# Altium footprint library charging-module.PcbLib: 17 footprints (part 1 of 2)
Each footprint in its own frame and in the unit in brackets; x right, y up, seen from the top. Pads: shape width x height; smd on the part's side, far side on the other; paste and mask are expansions set on the pad; w line width, h text height; cw(c..) or ccw(c..) is an arc to the next point about the centre after c.
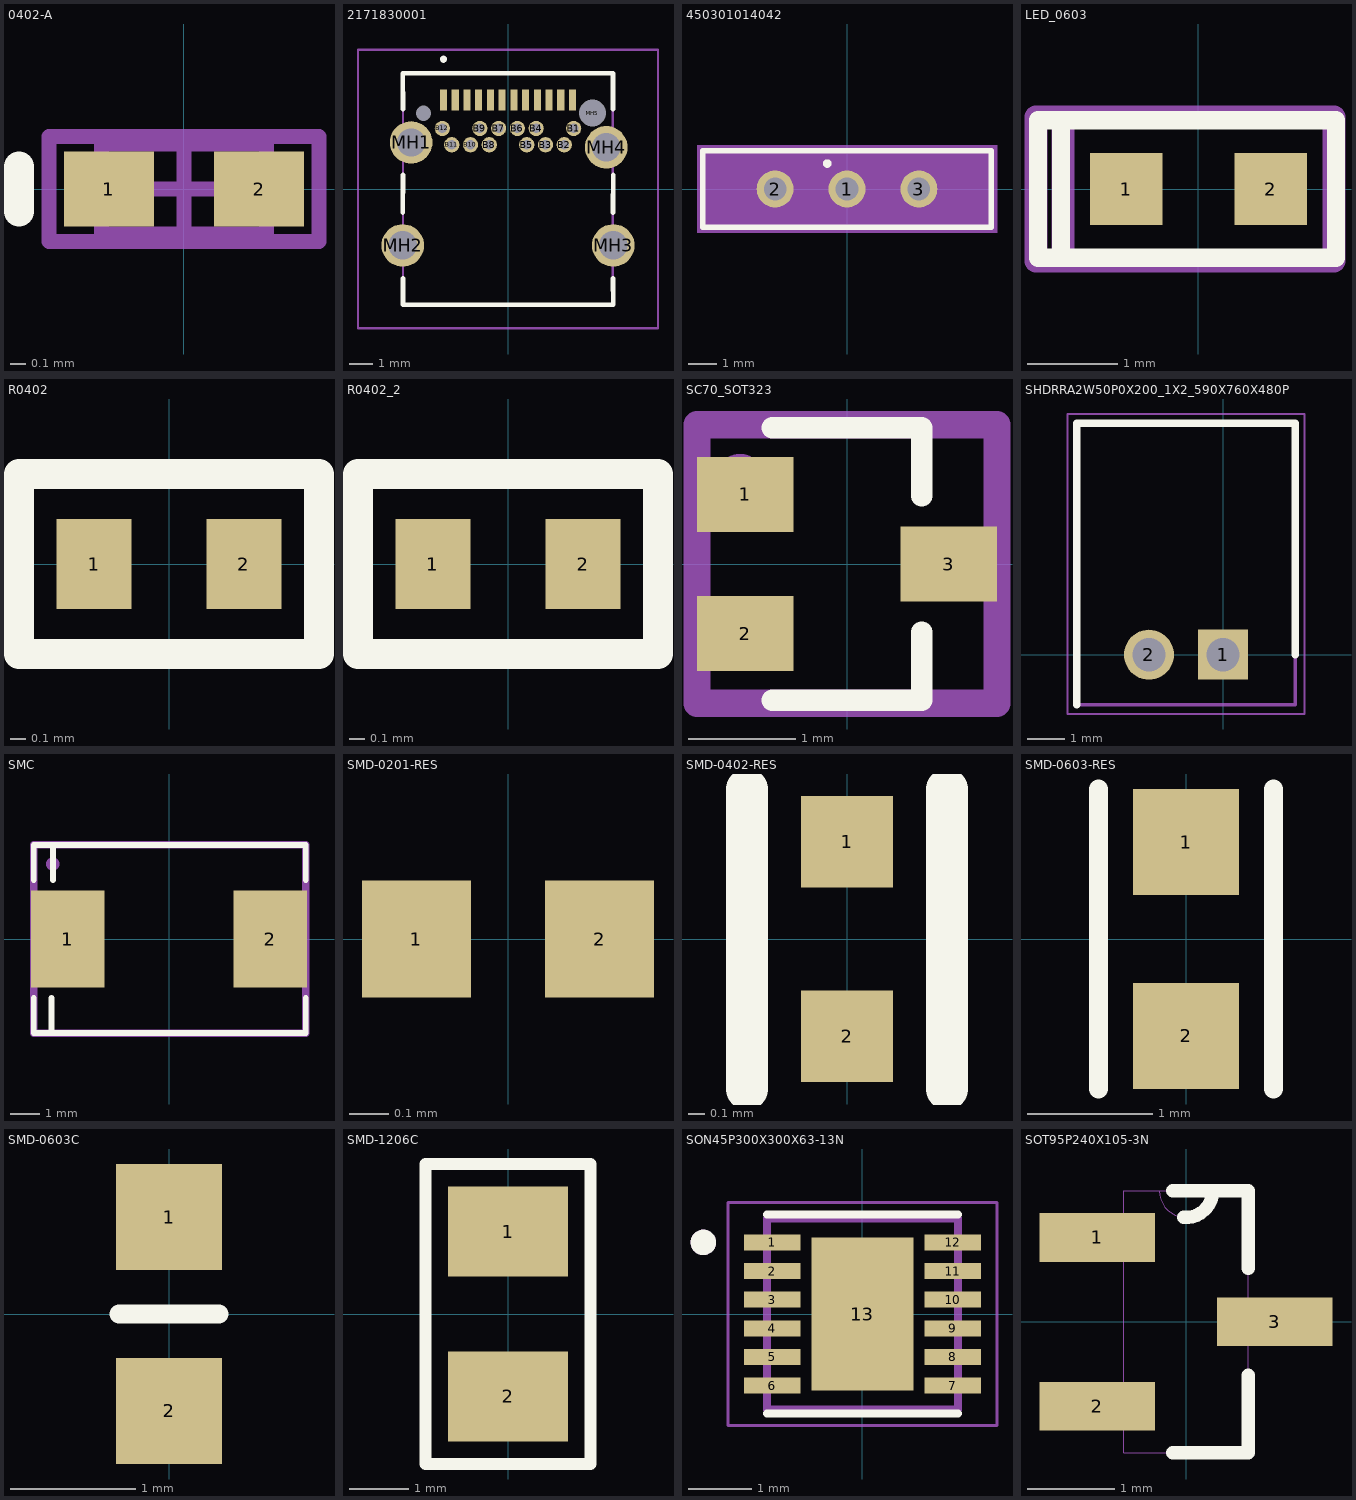
[diagram p0: the footprints below, top view; thin cyan lines are the x and y axes]

## 0402-A [mm] "Chip Inductor, Body 1.0x0.5mm, IPC High Density"
height 0.55
pads (2):
  rect 0.6x0.5 smd: 1(-0.5,0) 2(0.5,0)
Top Overlay:
  lines w0.2: -1.1,-0.15 -1.1,0.15
Mechanical 13:
  lines w0.1: -0.55,-0.3 0.55,-0.3 0.55,0.3 -0.55,0.3 -0.55,-0.3
Mechanical 15:
  lines w0.1: -0.3,0 0.3,0 ; 0,-0.3 0,0.3 ; -0.9,-0.35 0.9,-0.35 0.9,0.35 -0.9,0.35 -0.9,-0.35
3D body: height 0.55, standoff 0, extent -0.55,-0.3 0.55,0.3

## 2171830001 [mm]
pads (30):
  rect 0.3x0.9 smd: A1(-2.75,3.795) A2(-2.25,3.795) A3(-1.75,3.795) A4(-1.25,3.795) A5(-0.75,3.795) A6(-0.25,3.795) A7(0.25,3.795) A8(0.75,3.795) A9(1.25,3.795) A10(1.75,3.795) A11(2.25,3.795) A12(2.75,3.795)
  round 0.65 hole 0.4: B1(2.8,2.585) B2(2.4,1.885) B3(1.6,1.885) B4(1.2,2.585) B5(0.8,1.885) B6(0.4,2.585) B7(-0.4,2.585) B8(-0.8,1.885) B9(-1.2,2.585) B10(-1.6,1.885) B11(-2.4,1.885) B12(-2.8,2.585)
  round 1.815 hole 1.21: MH1(-4.13,1.985) MH2(-4.49,-2.405) MH3(4.49,-2.405) MH4(4.191,1.778)
  round 0.575 hole 1.15 unplated: MH5(3.6,3.235)
  round 0.325 hole 0.65 unplated: MH6(-3.6,3.235)
Top Overlay:
  lines w0.2: -4.49,-1 -4.475,0.6 ; -4.475,-3.8 -4.475,-4.935 4.49,-4.935 4.474,-3.8 ; -4.475,3.4 -4.49,4.935 4.474,4.935 4.474,3.4 ; -2.75,5.484 cw(c-2.75,5.535) -2.75,5.586 ; 4.474,-1 4.49,0.6 ; -2.75,5.485 ccw(c-2.75,5.535) -2.75,5.585 cw(c-2.75,5.535) -2.75,5.485
Mechanical 15:
  lines w0.1: -4.475,-4.935 -4.475,4.935 4.474,4.935 4.474,-4.935 -4.475,-4.935
Mechanical 20:
  lines w0.1: -6.397,-5.935 -6.397,5.935 6.397,5.935 6.397,-5.935 -6.397,-5.935
3D body "217183-0001.stp": height 2.23, standoff -2.23, extent -4.925,-5.189 4.925,4.681

## 450301014042 [mm]
pads (3):
  round 1.308 hole 0.8: 1(0,0) 2(-2.54,0) 3(2.54,0)
Top Overlay:
  circle w0.2: c-0.7,0.9 r0.05
  lines w0.2: -5.1,-1.35 5.1,-1.35 5.1,1.35 -5.1,1.35 -5.1,-1.35
Mechanical 13:
  lines w0.1: -5,-1.25 -5,1.25 5,1.25 5,-1.25 -5,-1.25
Mechanical 15:
  region: 5.3,-1.55 -5.3,-1.55 -5.3,1.55 5.3,1.55
3D body "450301014042+%28rev1%29.stp": height 6.4, standoff -5, extent -5,-1.25 5,1.25

## LED_0603 [mm]
pads (2):
  rect 0.8x0.8 smd: 1(-0.8,0) 2(0.8,0)
Top Overlay:
  lines w0.2: -1.524,-0.762 -1.524,0.762 ; -1.778,-0.762 -1.778,0.762 1.524,0.762 1.524,-0.762 -1.778,-0.762
Mechanical 16:
  lines w0.254: -1.5,-0.8 -1.5,0.8 ; -1.8,-0.8 1.5,-0.8 1.5,0.8 -1.8,0.8 -1.8,-0.8
Mechanical 29:
  text ".Designator" at 0.4,0.3 h0.6
3D body: height 0.66, standoff 0.5, extent -0.2,-0.2 0.2,0.2
3D body "LED SMD 0603.step": height 0.65, standoff 0, extent -0.85,-0.4 0.85,0.4

## R0402 [mm]
pads (2):
  rect 0.5x0.6 smd: 1(-0.5,0) 2(0.5,0)
Top Overlay:
  lines w0.2: -1,-0.6 1,-0.6 1,0.6 -1,0.6 -1,-0.6
Mechanical 16:
  lines w0.15: -1,-0.6 -1,0.6 1,0.6 1,-0.6 -1,-0.6
Mechanical 29:
  text ".Designator" at -0.5,-0.2 h0.4
3D body "R0402.step": height 0.4, standoff 0, extent -0.5,-0.25 0.5,0.25

## R0402_2 [mm]
pads (2):
  rect 0.5x0.6 smd: 1(-0.5,0) 2(0.5,0)
Top Overlay:
  lines w0.2: -1,-0.6 -1,0.6 1,0.6 1,-0.6 -1,-0.6
Mechanical 16:
  lines w0.15: -1,-0.6 1,-0.6 1,0.6 -1,0.6 -1,-0.6
Mechanical 29:
3D body "R0402.step": height 0.4, standoff 0, extent -0.5,-0.25 0.5,0.25

## SC70_SOT323 [mm]
pads (3):
  rect 0.9x0.7 smd: 1(-0.95,0.65) 2(-0.95,-0.65) 3(0.95,0)
Top Overlay:
  lines w0.2: -0.699,-1.27 0.699,-1.27 0.699,-0.635 ; -0.699,1.27 0.699,1.27 0.699,0.635
Mechanical 16:
  circle w0.254: c-1,0.8 r0.1
  lines w0.254: -1.4,-1.3 -1.4,1.3 1.4,1.3 1.4,-1.3 -1.4,-1.3
Mechanical 29:
  text ".Designator" at 0.3,-0.4 h0.6
3D body: height 0.75, standoff 0, extent 0.699,-0.318 1.27,0.381
3D body: height 0.75, standoff 0, extent -1.27,-1.016 -0.699,-0.318
3D body: height 0.75, standoff 0, extent -1.27,0.318 -0.699,1.016
3D body: height 1.1, standoff 0, extent -0.699,-1.27 0.699,1.27

## SHDRRA2W50P0X200_1X2_590X760X480P [mm]
pads (2):
  rect 1.35x1.35 / inner round 1.35 / far side rect 1.35x1.35 hole 0.9: 1(0,0)
  round 1.35 hole 0.9: 2(-2,0)
Top Overlay:
  lines w0.2: -3.95,-1.35 -3.95,6.25 1.95,6.25 1.95,0
Mechanical 15:
  lines w0.1: -3.95,-1.35 1.95,-1.35 1.95,6.25 -3.95,6.25 -3.95,-1.35
Mechanical 20:
  lines w0.05: -4.2,-1.6 2.2,-1.6 2.2,6.5 -4.2,6.5 -4.2,-1.6
3D body "S2B-PH-K-S_LF__SN_.stp": height 4.8, standoff -3.4, extent -3.937,-1.26 1.963,6.34

## SMC [mm]
pads (2):
  rect 2.5x3.3 smd: 1(-3.45,0) 2(3.45,0)
Top Overlay:
  lines w0.2: -4.6,-2 -4.6,-3.2 4.65,-3.2 4.65,-2 ; -4.6,2 -4.6,3.2 4.65,3.2 4.65,2 ; -4,-3.2 -4,-2 ; -3.95,2 -3.95,3.2
Mechanical 16:
  circle w0.254: c-3.95,2.55 r0.1
  lines w0.254: -4.6,-3.2 4.65,-3.2 4.65,3.2 -4.6,3.2 -4.6,-3.2
Mechanical 29:
  text ".Designator" at 2.1,0.8 h1.52
3D body "DO-214AB SMC.step": height 2.3, standoff 0, extent -3.975,-2.95 3.975,2.95

## SMD-0201-RES [mm] "SMD-0201-RES"
height 0.25
pads (2):
  rect 0.28x0.3 smd: 1(-0.235,0) 2(0.235,0)
3D body "User Library-0201(0603M) Res.step": height 0.3, standoff -0.01, extent -0.305,-0.152 0.305,0.155

## SMD-0402-RES [mm]
pads (2):
  rect 0.55x0.55 smd: 1(0,0.584) 2(0,-0.584)
Top Overlay:
  lines w0.254: -0.6,-0.9 -0.6,0.9 ; 0.6,-0.9 0.6,0.9
3D body "resistor0402.step": height 0.41, standoff 0, extent -0.275,-0.575 0.275,0.575

## SMD-0603-RES [mm]
pads (2):
  rect 0.85x0.85 smd: 1(0,0.775) 2(0,-0.775)
Top Overlay:
  lines w0.152: -0.7,-1.2 -0.7,1.2 ; 0.7,-1.2 0.7,1.2
3D body "0603.step": height 0.56, standoff 0, extent -0.4,-0.85 0.4,0.85

## SMD-0603C [mm]
pads (2):
  rect 0.85x0.85 smd: 1(0,0.775) 2(0,-0.775)
Top Overlay:
  lines w0.152: -0.4,0 0.4,0
3D body "capacitor 0603.step": height 0.9, standoff 0, extent -0.4,-0.8 0.4,0.8

## SMD-1206C [mil]
pads (2):
  rect 80x60 smd: 1(0,55) 2(0,-55)
Top Overlay:
  lines w8: -55,-100 55,-100 55,100 -55,100 -55,-100
3D body "capacitor 1206.step": height 39.37, standoff 0, extent -31.49,-62.99 31.5,63

## SON45P300X300X63-13N [mm]
height 0.63
pads (13):
  rect 0.89x0.25 smd paste+0 mask+0.05: 1(-1.42,1.125) 2(-1.42,0.675) 3(-1.42,0.225) 4(-1.42,-0.225) 5(-1.42,-0.675) 6(-1.42,-1.125) 7(1.42,-1.125) 8(1.42,-0.675) 9(1.42,-0.225) 10(1.42,0.225) 11(1.42,0.675) 12(1.42,1.125)
  rect 1.6x2.4 smd paste-2 mask+0.102: 13(0,0)
Top Overlay:
  circle w0.2: c-2.5,1.125 r0.1
  lines w0.127: -1.5,-1.564 1.5,-1.564 ; -1.5,1.564 1.5,1.564
Top Paste:
  region: 0.505,-0.76 -0.505,-0.76 -0.505,0.76 0.505,0.76
Mechanical 13:
  circle w0.2: c-2.5,1.125 r0.1
  lines w0.127: -1.5,-1.5 1.5,-1.5 1.5,1.5 -1.5,1.5 -1.5,-1.5
Mechanical 15:
  lines w0.05: -2.115,-1.75 2.115,-1.75 2.115,1.75 -2.115,1.75 -2.115,-1.75
3D body "step_temp.STEP": height 1, standoff 0, extent -1.5,-1.5 1.5,1.5

## SOT95P240X105-3N [mil]
pads (3):
  rect 52x22 smd: 1(-40,38) 2(-40,-38) 3(40,0)
Top Overlay:
  lines w6: -6,-59 28,-59 28,-24 ; -6,59 12,59 28,59 28,24 ; -1.04,47 ccw(c0,58.96) 12,58.96
Mechanical 13:
  lines w0: -28,-48 -28,-59 28,-59 28,-10 ; -28,-48 -28,-28 ; -28,-48 -49,-48 -49,-28 -28,-28 ; -28,-28 -28,28 ; -28,28 -28,48 ; -28,28 -49,28 -49,48 -28,48 ; -28,48 -28,59 -12,59 ; -12,59 ccw(c0,59) 12,59 ; -12,59 12,59 ; 12,59 28,59 28,10 ; 28,-10 28,10 ; 28,-10 49,-10 49,10 28,10
3D body "step_temp.STEP": height 44.88, standoff 0, extent -47.24,-57.09 47.24,57.09